# Altium footprint library MB10S_SMD_AC-DC_Bridge.PcbLib: 1 footprints
Each footprint in its own frame and in the unit in brackets; x right, y up, seen from the top. Pads: shape width x height; smd on the part's side, far side on the other; paste and mask are expansions set on the pad; w line width, h text height; cw(c..) or ccw(c..) is an arc to the next point about the centre after c.
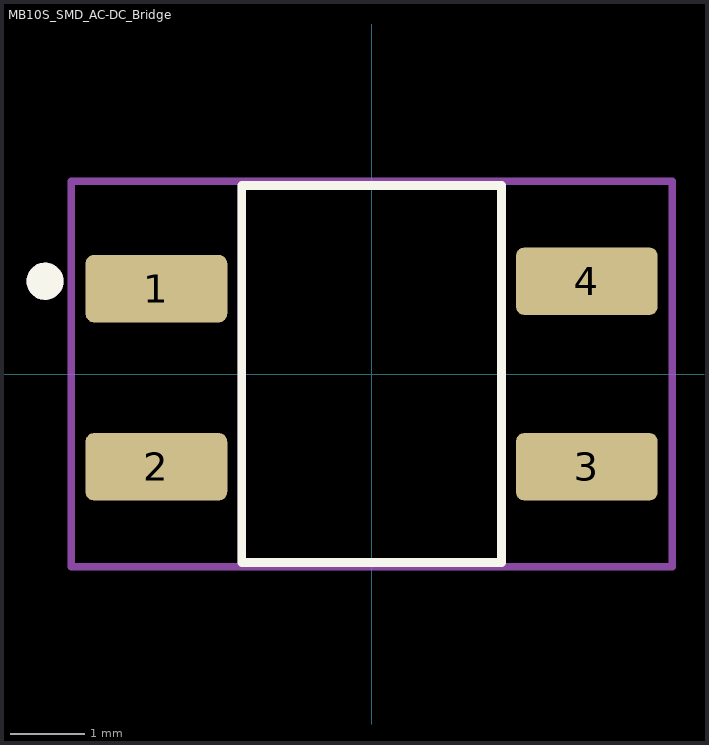
[diagram p0: the footprint, top view; thin cyan lines are the x and y axes]

## MB10S_SMD_AC-DC_Bridge [mm] "MB10S_SMD_AC-DC_Bridge"
pads (4):
  rrect25% 1.91x0.91 smd: 1(-2.9,1.15) 2(-2.9,-1.25) 3(2.9,-1.25) 4(2.9,1.25)
Top Overlay:
  circle w0.25: c-4.4,1.25 r0.125
  lines w0.12: -1.75,-2.54 -1.75,2.54 1.75,2.54 1.75,-2.54 -1.75,-2.54
Mechanical 1:
  circle w0.25: c-4.4,1.25 r0.125
  lines w0.1: -4.05,-2.6 4.05,-2.6 4.05,2.6 -4.05,2.6 -4.05,-2.6
  lines w0.12: -1.75,-2.54 1.75,-2.54 1.75,2.54 -1.75,2.54 -1.75,-2.54
  text "-" at -1.466,-1.988 h2
  text "+" at -1.648,0.445 h2
  text "~" at 0.628,-2.09 h2
  text "~" at 0.628,0.726 h2
  text ".Designator" at -0.575,-0.413 h1.52
Mechanical 15:
  text "+" at -0.333,-0.5 h1
3D body "SOIC250P600X300-4L.step": height 3, standoff 0, extent -3,-2.45 3,2.45